# EAGLE library part FH12-18S-0.5SVA(54) (library FH12-18S-0.5SVA(54))
FFC & FPC Connectors 0.5MM 18P SMT VERT MNT SELECT GLD Source: Datasheet <https://componentsearchengine.com/Datasheets/1/FH12-18S-0.5SVA(54).pdf>
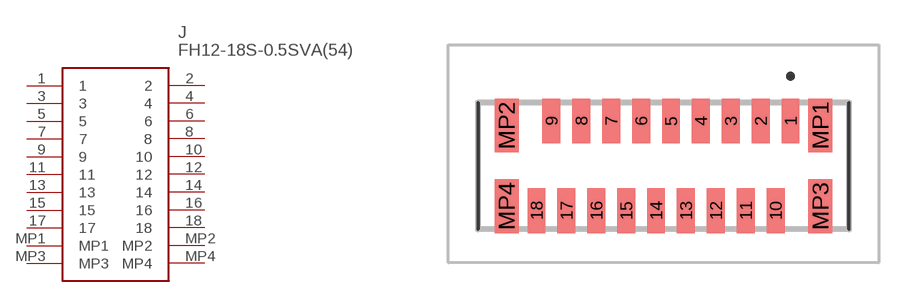
[diagram p0: symbol with the pads of FH1218S05SVA54; footprint FH1218S05SVA54]

Designator prefix J

## FH12-18S-0.5SVA(54) (Description: FFC & FPC Connectors 0.5MM 18P SMT VERT MNT SELECT GLD; Height: 5.5mm; Manufacturer_Name: Hirose; Manufacturer_Part_Number: FH12-18S-0.5SVA(54); Mouser_Part_Number: 798-FH1218S0.5SVA54; Mouser_Price-Stock: https://www.mouser.com/Search/Refine.aspx?Keyword=798-FH1218S0.5SVA54)  [FH1218S05SVA54]
1  1
2  2
3  3
4  4
5  5
6  6
7  7
8  8
9  9
10  10
11  11
12  12
13  13
14  14
15  15
16  16
17  17
18  18
MP1  MP1
MP2  MP2
MP3  MP3
MP4  MP4

## Footprint FH1218S05SVA54 (pad centres in mm)
FH12-18S-0.5SVA(54)-2
smd 0.6 x 1.5: 1 4.25,1.5; 2 3.25,1.5; 3 2.25,1.5; 4 1.25,1.5; 5 0.25,1.5; 6 -0.75,1.5; 7 -1.75,1.5; 8 -2.75,1.5; 9 -3.75,1.5; 10 3.75,-1.5; 11 2.75,-1.5; 12 1.75,-1.5; 13 0.75,-1.5; 14 -0.25,-1.5; 15 -1.25,-1.5; 16 -2.25,-1.5; 17 -3.25,-1.5; 18 -4.25,-1.5
smd 0.8 x 1.8: MP1 5.25,1.35; MP2 -5.25,1.35; MP3 5.25,-1.35; MP4 -5.25,-1.35